# EAGLE library part MY_CLOCK_LIB_COMPONENTS_9_PTS840ESDPMSMTRLF (library watch_pcb_lib)
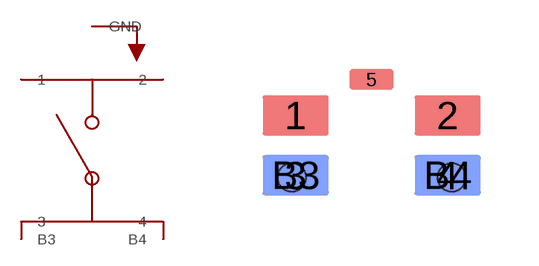
[diagram p2: symbol with the pads of MY_CLOCK_LIB_COMPONENTS_9_PTS840ESDPMSMTRLF; footprint MY_CLOCK_LIB_COMPONENTS_9_PTS840ESDPMSMTRLF]

Designator prefix -

## MY_CLOCK_LIB_COMPONENTS_9_PTS840ESDPMSMTRLF  [MY_CLOCK_LIB_COMPONENTS_9_PTS840ESDPMSMTRLF]
1  1
2  2
3  3
4  4
5  GND  pwr
B3  B3
B4  B4

## Footprint MY_CLOCK_LIB_COMPONENTS_9_PTS840ESDPMSMTRLF (pad centres in mm)
smd 1.65 x 1: 1 -1.9,0.75; 2 1.9,0.75; 3 -1.9,-0.75; 4 1.9,-0.75
smd 1.1 x 0.5: 5 0,1.65
smd 1.65 x 1 bottom: B3 -1.89,-0.745; B4 1.91,-0.745
hole 0.7 at -2,-0.8
hole 0.7 at 2,-0.8